# Altium footprint library PCB - CONNECTOR - MILL-MAX 816-22-002-10-001101.PCBLIB: 1 footprints
Each footprint in its own frame and in the unit in brackets; x right, y up, seen from the top. Pads: shape width x height; smd on the part's side, far side on the other; paste and mask are expansions set on the pad; w line width, h text height; cw(c..) or ccw(c..) is an arc to the next point about the centre after c.
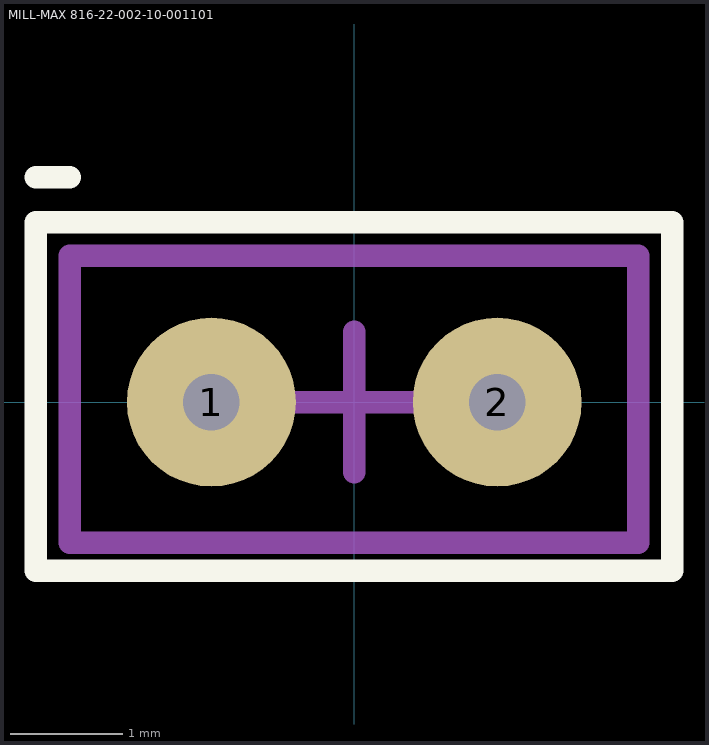
[diagram p0: the footprint, top view; thin cyan lines are the x and y axes]

## MILL-MAX 816-22-002-10-001101 [mm] "FCI Pluggable Terminal Block"
height 7
pads (2):
  round 1.5 hole 0.5: 1(-1.27,0) 2(1.27,0)
Top Overlay:
  lines w0.2: -2.83,2 -2.53,2 ; -2.83,-1.5 2.825,-1.5 2.825,1.6 -2.83,1.6 -2.83,-1.5
Mechanical 15:
  lines w0.2: -0.625,0 0,0 0.625,0 ; 0,-0.625 0,0.625 ; -2.53,-1.25 2.525,-1.25 2.525,1.3 -2.53,1.3 -2.53,-1.25
3D body "MILL MAX 816-22-002-10-001101.step": height 6.98, standoff -1.75, extent -2.55,-1.27 2.53,1.27